# Altium schematic symbol library 2Nxxxx.SchLib: 4 symbols
Pins are listed as number, name and electrical type; pins without a type are passive.

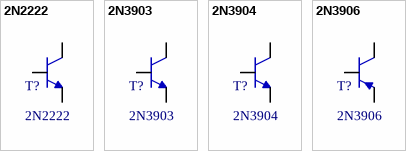
[diagram p0: symbols 2N2222 to 2N3906]

## 2N2222
designator T?
NPN Silicon Amplifier Transistors
footprint TO-92 BENT (BENT LEAD)
footprint TO-92 STRAIGHT (STRAIGHT LEAD)
pins: 1 C, 2 B, 3 E

## 2N3903
designator T?
NPN Silicon General Purpose Transistors
footprint TO-92 BENT (BENT LEAD)
footprint TO-92 STRAIGHT (STRAIGHT LEAD)
pins: 1 E, 2 B, 3 C

## 2N3904
designator T?
NPN Silicon General Purpose Transistors
footprint TO-92 BENT (BENT LEAD)
footprint TO-92 STRAIGHT (STRAIGHT LEAD)
pins: 1 E, 2 B, 3 C

## 2N3906
designator T?
PNP Silicon General Purpose Transistors
footprint TO-92 BENT (BENT LEAD)
footprint TO-92 STRAIGHT (STRAIGHT LEAD)
pins: 1 E, 2 B, 3 C